# Altium schematic symbol library IND 3.3UH 12A 12 MOHM SMD.SchLib: 1 symbol
Pins are listed as number, name and electrical type; pins without a type are passive.

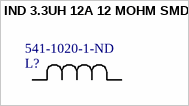
[diagram p0: symbol IND 3.3UH 12A 12 MOHM SMD]

## IND 3.3UH 12A 12 MOHM SMD
designator L?, comment Supplier Part Number 1: 541-1020-1-ND  (hidden comment: IHLP5050CEER3R3M01)
3.3uH 12A Shielded Molded Inductor 12mOhm Max; Mfr_Name: Vishay; Type: DEV; Copyright: Copyright (C) 2021 Ultra Librarian. All rights reserved.; Manufacturer_Part_Number: IHLP5050CEER3R3M01; Digi-Key_Part_Number_1: 541-1020-1-ND; Digi-Key_Part_Number_2: 541-1020-2-ND; Digi-Key_Part_Number_3: 541-1020-6-ND; RefDes: RefDes; Supplier 1: Digi-Key
footprint IND_IHLP-5050CE_VIS
pins: 1, 2